# Altium footprint library Synthiam-new.PcbLib: 262 footprints (part 16 of 17)
Each footprint in its own frame and in the unit in brackets; x right, y up, seen from the top. Pads: shape width x height; smd on the part's side, far side on the other; paste and mask are expansions set on the pad; w line width, h text height; cw(c..) or ccw(c..) is an arc to the next point about the centre after c.
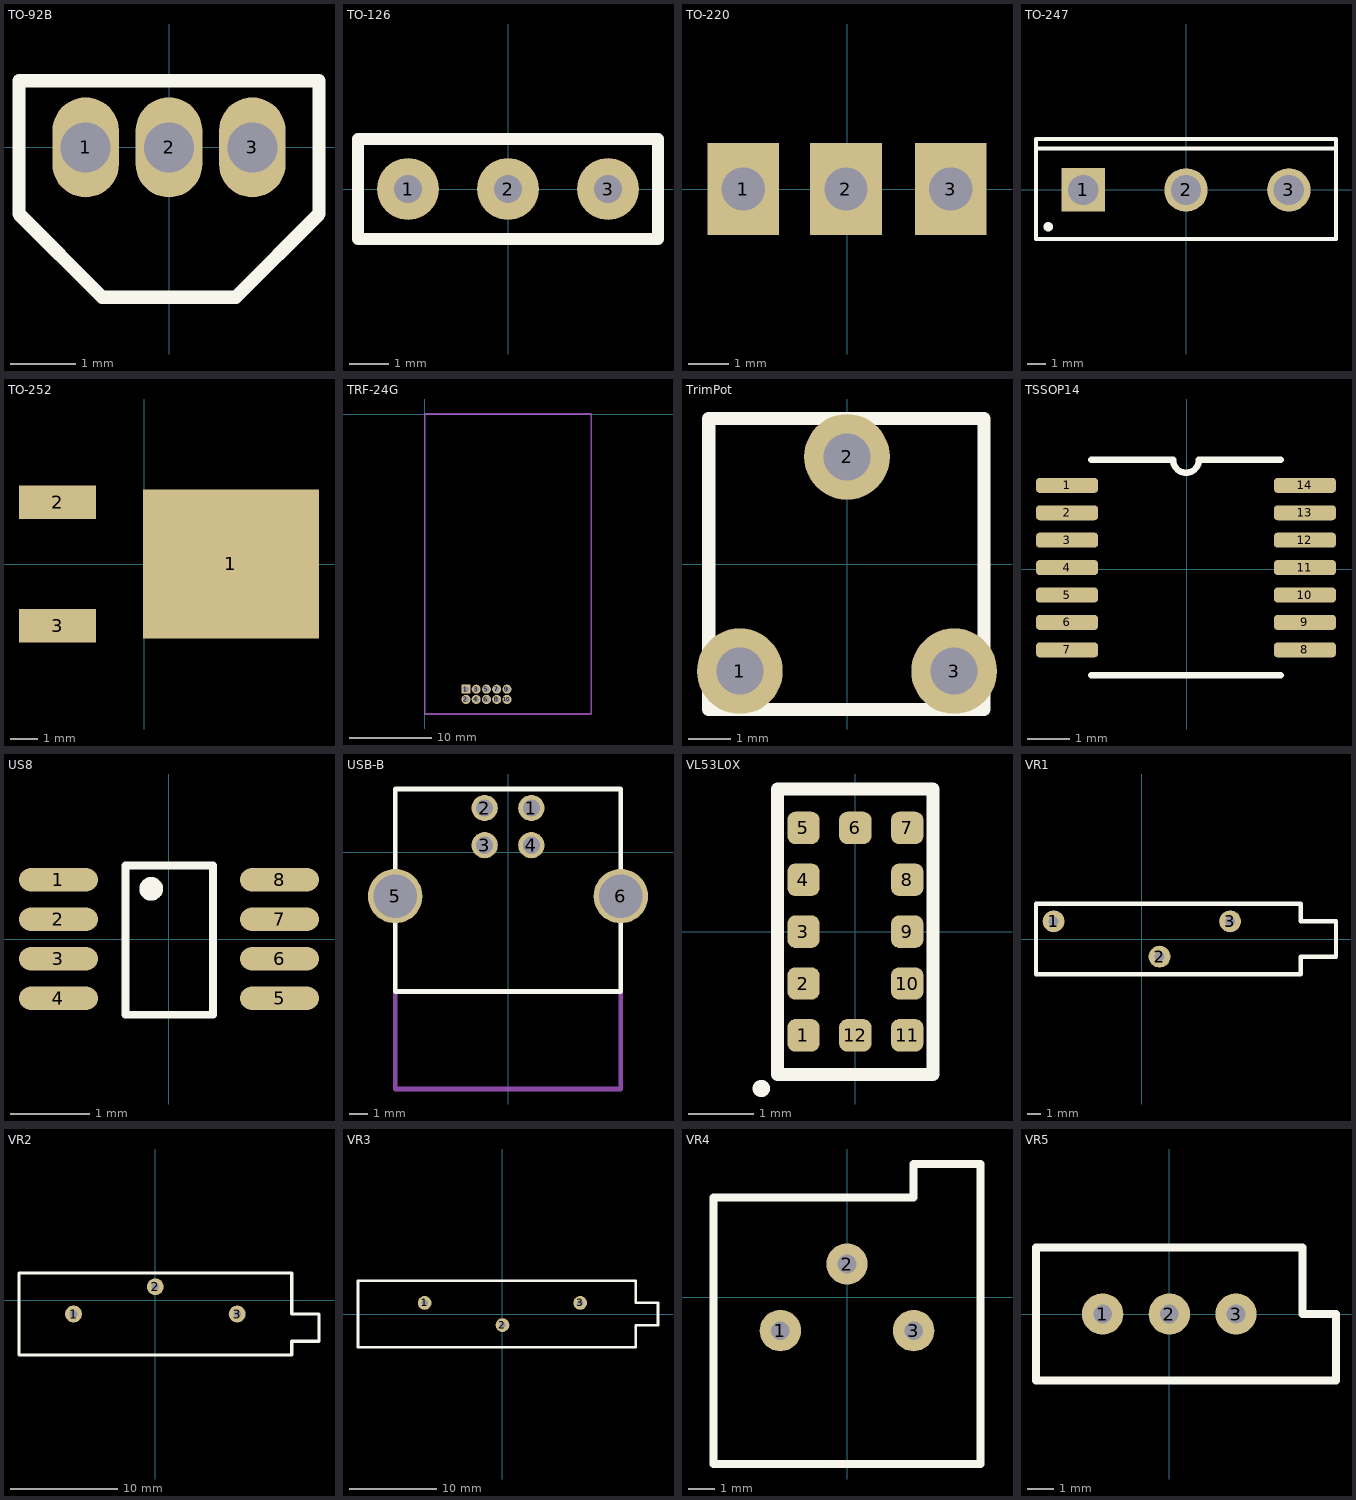
[diagram p15: the footprints below, top view; thin cyan lines are the x and y axes]

## TO-92B [mil]
pads (3):
  oval 40x60 hole 30: 1(-50,0) 2(0,0) 3(50,0)
Top Overlay:
  lines w8: -90,-40 -40,-90 40,-90 90,-40 90,40 -90,40 -90,-40

## TO-126 [mil]
pads (3):
  round 62 hole 28: 1(-100,0) 2(0,0) 3(100,0)
Top Overlay:
  lines w12: -150,-50 150,-50 150,50 -150,50 -150,-50

## TO-220 [mil]
pads (3):
  rect 70x90 hole 42: 1(-101,0) 2(-1,0) 3(101,0)

## TO-247 [mm]
pads (3):
  rect 2.3x2.3 hole 1.6: 1(-5.45,0)
  round 2.3 hole 1.6: 2(0,0) 3(5.45,0)
Top Overlay:
  circle w0.25: c-7.3,-1.95 r0.125
  lines w0.2: -7.95,2.2 7.95,2.2 ; -7.95,-2.6 -7.95,2.7 7.95,2.7 7.95,-2.6 -7.95,-2.6
Mechanical 13:
  lines w0.1: -7.95,-2.6 -7.95,2.7 7.95,2.7 7.95,-2.6 -7.95,-2.6
Mechanical 15:
  lines w0.1: -0.5,0 0.5,0 ; 0,-0.5 0,0.5

## TO-252 [mm]
pads (3):
  rect 6.5x5.5 smd: 1(3.2,0)
  rect 2.85x1.25 smd: 2(-3.2,2.28) 3(-3.2,-2.28)

## TRF-24G [mm]
pads (10):
  rect 1.1x1.1 hole 0.7: 1(5.033,-33.548)
  round 1.1 hole 0.7: 2(5.033,-34.798) 3(6.283,-33.548) 4(6.283,-34.798) 5(7.533,-33.548) 6(7.533,-34.798) 7(8.783,-33.548) 8(8.783,-34.798) 9(10.033,-33.548) 10(10.033,-34.798)
Mechanical 1:
  lines w0.203: 0,-36.576 0,0 20.32,0 20.32,-36.576 0,-36.576

## TrimPot [mm]
pads (3):
  round 2 hole 1.1: 1(-2.5,-2.5) 2(0,2.5) 3(2.5,-2.5)
Top Overlay:
  lines w0.305: -3.226,-3.4 -3.226,3.4 ; -3.2,-3.4 3.2,-3.4 3.2,3.4 -3.2,3.4

## TSSOP14 [mil]
pads (14):
  rrect50% 58x14 smd mask+4: 1(-111.87,78.35) 2(-111.87,52.76) 3(-111.87,27.17) 4(-111.87,1.57) 5(-111.87,-24.02) 6(-111.87,-49.61) 7(-111.87,-75.2) 8(110.13,-75.2) 9(110.13,-49.61) 10(110.13,-24.02) 11(110.13,1.57) 12(110.13,27.17) 13(110.13,52.76) 14(110.13,78.35)
Top Overlay:
  lines w6: -89.37,-98.93 87.63,-98.93 ; -89.37,102.36 -14.73,102.36 ; -12.87,102.07 ccw(c-0.87,102.07) 11.13,102.07 ; 11.13,102.36 87.63,102.36
Mechanical 1:
  lines w0: -12.87,102.07 ccw(c-0.87,102.07) 11.13,102.07

## US8 [mm]
pads (8):
  oval 1x0.3 smd: 1(-1.4,0.75) 2(-1.4,0.25) 3(-1.4,-0.25) 4(-1.4,-0.75) 5(1.4,-0.75) 6(1.4,-0.25) 7(1.4,0.25) 8(1.4,0.75)
Top Overlay:
  circle w0.2: c-0.225,0.635 r0.05
  lines w0.1: -0.55,-0.96 0.555,-0.96 0.555,0.93 -0.55,0.93 -0.55,-0.96

## USB-B [mil]
pads (6):
  round 55 hole 36: 1(49,92.5) 2(-49,92.5) 3(-49,14.5) 4(49,14.5)
  round 114.17 hole 91: 5(-237,-92.5) 6(237,-92.5)
Top Overlay:
  lines w10: -237,-292.5 -237,132.5 237,132.5 237,-292.5 -237,-292.5
Mechanical 1:
  lines w10: -237,-292.5 -237,-497.5 237,-497.5 237,-292.5

## VL53L0X [mm]
pads (12):
  rrect50% 0.5x0.5 smd: 1(-0.8,-1.6) 2(-0.8,-0.8) 3(-0.8,0) 4(-0.8,0.8) 5(-0.8,1.6) 6(0,1.6) 7(0.8,1.6) 8(0.8,0.8) 9(0.8,0) 10(0.8,-0.8) 11(0.8,-1.6) 12(0,-1.6)
Top Overlay:
  circle w0.254: c-1.45,-2.42 r0.007
  lines w0.2: 1.195,2.2 -1.2,2.2 -1.2,-2.2 1.2,-2.2 1.2,2.185

## VR1 [mil]
pads (3):
  round 62 hole 28: 1(-250,50) 2(50,-50) 3(250,50)
Top Overlay:
  lines w12: -300,-100 450,-100 450,-50 550,-50 550,50 450,50 450,100 -300,100 -300,-100

## VR2 [mil]
pads (3):
  round 62 hole 28: 1(-300,-50) 2(0,50) 3(300,-50)
Top Overlay:
  lines w12: -500,-200 -500,100 500,100 500,-50 600,-50 600,-150 500,-150 500,-200 -500,-200

## VR3 [mil]
pads (3):
  round 62 hole 28: 1(-350,50) 2(0,-50) 3(350,50)
Top Overlay:
  lines w12: -650,-150 600,-150 600,-50 700,-50 700,50 600,50 600,150 -650,150 -650,-150

## VR4 [mil]
pads (3):
  round 62 hole 28: 1(-100,-50) 2(0,50) 3(100,-50)
Top Overlay:
  lines w12: -200,-250 -200,150 100,150 100,200 200,200 200,-250 -200,-250

## VR5 [mil]
pads (3):
  round 62 hole 28: 1(-100,0) 2(0,0) 3(100,0)
Top Overlay:
  lines w12: -200,-100 250,-100 250,0 200,0 200,100 -200,100 -200,-100